# Altium schematic symbol library 1984633.Schlib: 1 symbol
Pins are listed as number, name and electrical type; pins without a type are passive.

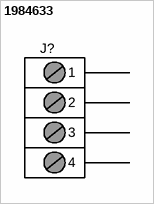
[diagram p0: symbol 1984633]

## 1984633
designator J?
pins: 1, 2, 3, 4